# Altium footprint library QFN32.PcbLib: 2 footprints
Each footprint in its own frame and in the unit in brackets; x right, y up, seen from the top. Pads: shape width x height; smd on the part's side, far side on the other; paste and mask are expansions set on the pad; w line width, h text height; cw(c..) or ccw(c..) is an arc to the next point about the centre after c.
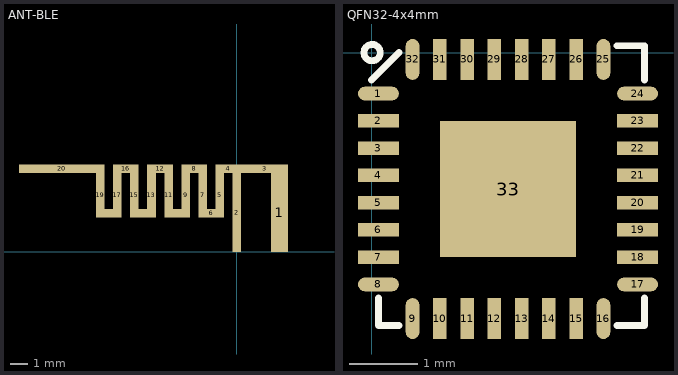
[diagram p0: the footprints below, top view; thin cyan lines are the x and y axes]

## ANT-BLE [mm]
height 1.2
pads (20):
  rect 1x4.6 smd: 1(2.5,2.3)
  rect 0.5x4.6 smd: 2(0,2.3)
  rect 2.75x0.5 smd: 3(1.625,4.85)
  rect 1.5x0.5 smd: 4(-0.5,4.85) 8(-2.5,4.85) 12(-4.5,4.85) 16(-6.5,4.85)
  rect 0.5x2.6 smd: 5(-1,3.3) 7(-2,3.3) 9(-3,3.3) 11(-4,3.3) 13(-5,3.3) 15(-6,3.3) 17(-7,3.3) 19(-8,3.3)
  rect 0.5x0.5 smd: 6(-1.5,2.25) 10(-3.5,2.25) 14(-5.5,2.25) 18(-7.5,2.25)
  rect 5x0.5 smd: 20(-10.25,4.85)

## QFN32-4x4mm [mm]
height 1.2
pads (33):
  oval 0.6x0.2 smd: 1(0.1,-0.6) 8(0.1,-3.4) 17(3.9,-3.4) 24(3.9,-0.6)
  rect 0.6x0.2 smd: 2(0.1,-1) 3(0.1,-1.4) 4(0.1,-1.8) 5(0.1,-2.2) 6(0.1,-2.6) 7(0.1,-3) 18(3.9,-3) 19(3.9,-2.6) 20(3.9,-2.2) 21(3.9,-1.8) 22(3.9,-1.4) 23(3.9,-1)
  oval 0.2x0.6 smd: 9(0.6,-3.9) 16(3.4,-3.9) 25(3.4,-0.1) 32(0.6,-0.1)
  rect 0.2x0.6 smd: 10(1,-3.9) 11(1.4,-3.9) 12(1.8,-3.9) 13(2.2,-3.9) 14(2.6,-3.9) 15(3,-3.9) 26(3,-0.1) 27(2.6,-0.1) 28(2.2,-0.1) 29(1.8,-0.1) 30(1.4,-0.1) 31(1,-0.1)
  rect 2x2 smd: 33(2,-2)
Top Overlay:
  circle w0.1: c0.007,0 r0.12
  lines w0.1: 0,-0.4 0.4,0 ; 0.1,-3.6 0.1,-4 0.4,-4 ; 3.6,-4 4,-4 4,-3.6 ; 3.6,0.1 4,0.1 4,-0.4